# Altium schematic symbol library TR35JBX50L0.SchLib: 1 symbol
Pins are listed as number, name and electrical type; pins without a type are passive.

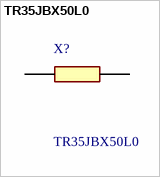
[diagram p0: symbol TR35JBX50L0]

## TR35JBX50L0
designator X?
RES, TO-220, 0.05 ohm, 5%, 35W; Manufacturer_Name: Stackpole Electronics, Inc.; Geometry.Height: 15.3mm; Manufacturer_Part_Number: TR35JBX50L0; Mouser Part Number: *; Mouser Price/Stock: *; Arrow Part Number: *; Arrow Price/Stock: *; Datasheet Link: https://www.seielect.com/Catalog/SEI-TR.pdf
footprint TR35JBX50L0
pins: 1, 2